# Altium integrated library cd4040.IntLib: 1 symbol
Pins are listed as number, name and electrical type; pins without a type are passive.

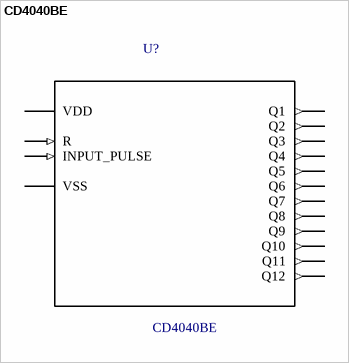
[diagram p0: symbol CD4040BE]

## CD4040BE
designator U?
Ic Counter Ripple Binary 12 Stage 16dil-300; MF: Texas Instruments; Availability: Unavailable; Package: PDIP-16 Texas Instruments; SnapEDA_Link: https://www.snapeda.com/parts/CD4040BE/Texas%20Instruments/view-part/?ref=snap; Price: None; MP: CD4040BE; Value: *
footprint *SOIC16
footprint *DIP16
pins: 1 Q12 (out), 2 Q6 (out), 3 Q5 (out), 4 Q7 (out), 5 Q4 (out), 6 Q3 (out), 7 Q2 (out), 8 VSS, 9 Q1 (out), 10 INPUT_PULSE (in), 11 R (in), 12 Q9 (out), 13 Q8 (out), 14 Q10 (out), 15 Q11 (out), 16 VDD (power)